# Altium schematic symbol library GeneralSchemaLibrary.SchLib: 214 symbols (part 2 of 2)
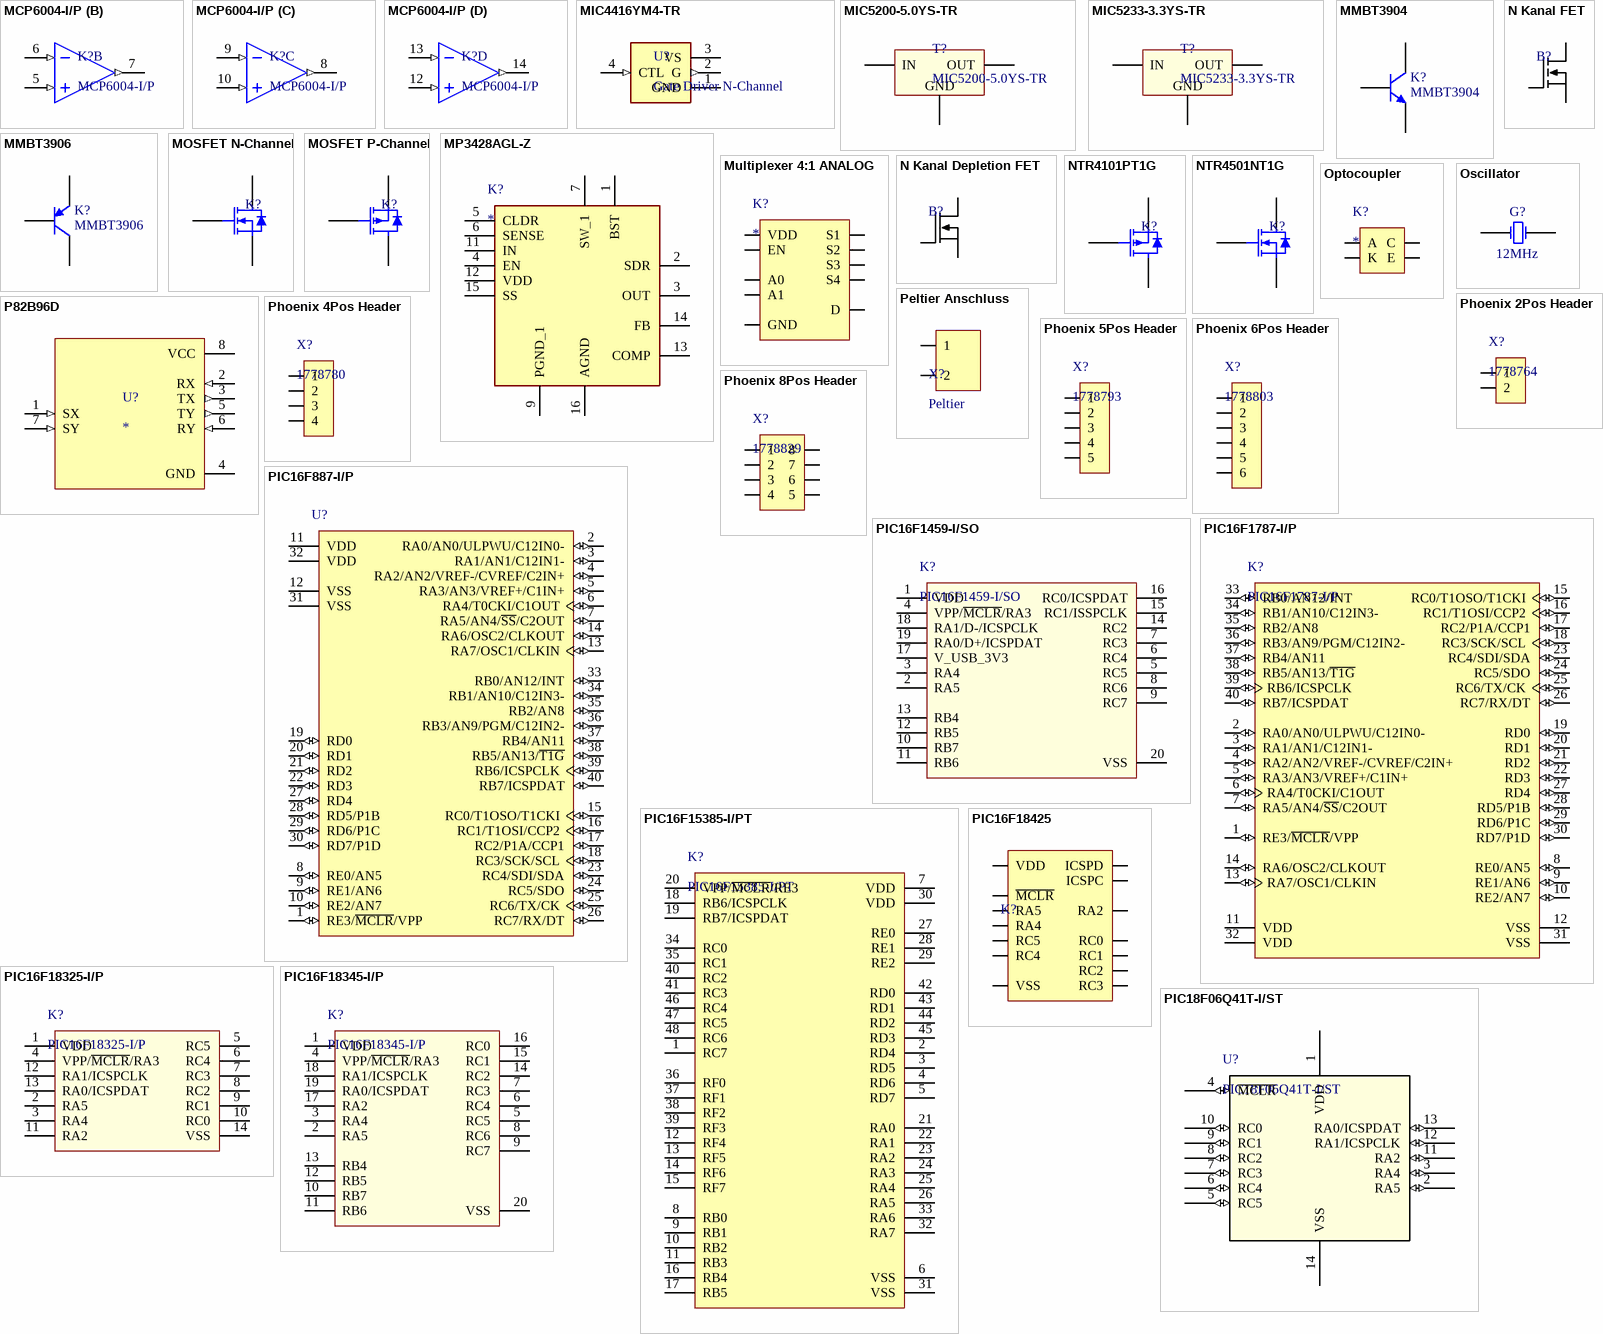
[diagram p7: symbols MCP6004-I/P to PIC18F06Q41T-I/ST]

## N Kanal FET
designator B?  (value not drawn)
footprint SOT23-3
footprint PowerPak SO-8
pins: 1 Gate, 2 Source, 3 Drain

## NTR4101PT1G
designator K?  (value not drawn)
MOSFET P-Channel in SOT23-3 package; Supplier 1: Mouser; Supplier Part Number 1: 863-NTR4101PT1G
footprint SOT23-3
pins: 1 G, 2 S, 3 D

## NTR4501NT1G
designator K?  (value not drawn)
MOSFET N-Channel in SOT23-3 package; Supplier 1: Mouser; Supplier Part Number 1: 863-NTR4501NT1G
footprint SOT23-3
pins: 1 G, 2 S, 3 D

## Optocoupler
designator K?
footprint SSOP-4 H
pins: 1 A, 2 K, 3 C, 4 E

## Oscillator
designator G?  value 12MHz
Crystal Oscillator; Published: 27.09.2019; LatestRevisionDate: 27.09.2019; Publisher: ICT Berufsbildungscenter AG
footprint Oscillator SMD
pins: 1 OSC1, 2 OSC2

## P82B96D
designator U?
Dual Bidirectional Bus Buffer 8-SOIC I2C; MP: P82B96D; MF: Texas Instruments; Check_prices: https://www.snapeda.com/parts/P82B96D/Texas%20Instruments/view-part/434000/?ref=eda; Availability: Warning; Package: SOIC-8 Texas Instruments; SnapEDA_Link: https://www.snapeda.com/parts/P82B96D/Texas%20Instruments/view-part/434000/?ref=snap; Price: None; Value: *; Purchase-URL: https://pricing.snapeda.com/search/part/P82B96D/?ref=eda
footprint TSSOP-8 H (TSSOP-8 for hand soldering)
pins: 1 SX (in), 2 RX (in), 3 TX (out), 4 GND (power), 5 TY (out), 6 RY (in), 7 SY (in), 8 VCC (power)

## Peltier Anschluss
designator X?, comment Peltier
footprint XT60_THT (XT60 to Board)
pins: 1, 2

## Phoenix 2Pos Header
designator X?, comment 1778764
footprint Phoenix 2Pos Header (MFR. 1778764)
pins: 1, 2

## Phoenix 4Pos Header
designator X?, comment 1778780
footprint Phoenix 4Pos Header (MFR. 1778780)
pins: 1, 2, 3, 4

## Phoenix 5Pos Header
designator X?, comment 1778793
footprint Phoenix 5Pos Header (MFR. 1778803)
pins: 1, 2, 3, 4, 5

## Phoenix 6Pos Header
designator X?, comment 1778803
footprint Phoenix 6Pos Header (MFR. 1778803)
pins: 1, 2, 3, 4, 5, 6

## Phoenix 8Pos Header
designator X?, comment 1778829
footprint Phoenix 8Pos Header (MFR. 1778829)
pins: 1, 2, 3, 4, 5, 6, 7, 8

## PIC16F887-I/P
designator U?
Flash-Based, 8-Bit CMOS Microcontroller with nanoWatt Technology, 8K (x14-Bit words) Program Memory, 624 Bytes Data Memory, 35 I/O pins, 40-Pin PDIP, Standard VDD Range, Industrial Temperature; Published: 29-Jan-2009; LatestRevisionDate: 02-Dec-2009; LatestRevisionNote: Updated datasheet to version revF, Apr-2009.; DatasheetVersion: revF, Apr-2009; PackageVersion: revBB, Aug-2009; PackageReference: PDIP600-P40; Publisher: Altium Limited; PackageDescription: 40-Lead Plastic Dual In-Line (P) - 600 mil Body [PDIP]; Supplier 1: Digi-Key; Supplier Part Number 1: PIC16F887-I/P-ND; Supplier 2: Farnell; Supplier Part Number 2: 1439541; ComponentLink1Description: Datasheet; ComponentLink1URL: http://ww1.microchip.com/downloads/en/DeviceDoc/41291F.pdf; ComponentLink2Description: Packaging Specification; ComponentLink2URL: http://www.microchip.com/stellent/groups/techpub_sg/documents/packagingspec/en012702.pdf; ComponentLink3Description: Microchip.com Home; ComponentLink3URL: http://www.microchip.com/
footprint DIP-40
pins: 1 RE3/~{MCLR}/VPP (io), 2 RA0/AN0/ULPWU/C12IN0- (io), 3 RA1/AN1/C12IN1- (io), 4 RA2/AN2/VREF-/CVREF/C2IN+ (io), 5 RA3/AN3/VREF+/C1IN+ (io), 6 RA4/T0CKI/C1OUT (io), 7 RA5/AN4/~{SS}/C2OUT (io), 8 RE0/AN5 (io), 9 RE1/AN6 (io), 10 RE2/AN7 (io), 11 VDD (power), 12 VSS (power), 13 RA7/OSC1/CLKIN (io), 14 RA6/OSC2/CLKOUT (io), 15 RC0/T1OSO/T1CKI (io), 16 RC1/T1OSI/CCP2 (io), 17 RC2/P1A/CCP1 (io), 18 RC3/SCK/SCL (io), 19 RD0 (io), 20 RD1 (io), 21 RD2 (io), 22 RD3 (io), 23 RC4/SDI/SDA (io), 24 RC5/SDO (io), 25 RC6/TX/CK (io), 26 RC7/RX/DT (io), 27 RD4 (io), 28 RD5/P1B (io), 29 RD6/P1C (io), 30 RD7/P1D (io), 31 VSS (power), 32 VDD (power), 33 RB0/AN12/INT (io), 34 RB1/AN10/C12IN3- (io), 35 RB2/AN8 (io), 36 RB3/AN9/PGM/C12IN2- (io), 37 RB4/AN11 (io), 38 RB5/AN13/~{T1G} (io), 39 RB6/ICSPCLK (io), 40 RB7/ICSPDAT (io)

## PIC16F1459-I/SO
designator K?
8 Bit Mikrocontroller, 20Pin, DIP, 14KB Flash, 1KB RAM, USB; Supplier 1: Mouser; Supplier Part Number 1: 579-PIC16F1459-I/SO
footprint SOIC-20 W H (Wide (300mil) SOIC with 20 pins for hand soldering)
footprint SOIC-18 W R (Wide (300mil) SOIC with 18 pins for reflow soldering)
pins: 1 VDD, 2 RA5, 3 RA4, 4 VPP/~{MCLR}/RA3, 5 RC5, 6 RC4, 7 RC3, 8 RC6, 9 RC7, 10 RB7, 11 RB6, 12 RB5, 13 RB4, 14 RC2, 15 RC1/ISSPCLK, 16 RC0/ICSPDAT, 17 V_USB_3V3, 18 RA1/D-/ICSPCLK, 19 RA0/D+/ICSPDAT, 20 VSS

## PIC16F1787-I/P
designator K?
Flash-Based, 8-Bit CMOS Microcontroller with nanoWatt Technology, 8K (x14-Bit words) Program Memory, 624 Bytes Data Memory, 35 I/O pins, 40-Pin PDIP, Standard VDD Range, Industrial Temperature; Published: 29-Jan-2009; LatestRevisionDate: 02-Dec-2009; LatestRevisionNote: Updated datasheet to version revF, Apr-2009.; DatasheetVersion: revF, Apr-2009; PackageVersion: revBB, Aug-2009; PackageReference: PDIP600-P40; Publisher: Altium Limited; PackageDescription: 40-Lead Plastic Dual In-Line (P) - 600 mil Body [PDIP]; Supplier 1: Digi-Key; Supplier Part Number 1: PIC16F887-I/P-ND; Supplier 2: Farnell; Supplier Part Number 2: 1439541; ComponentLink1Description: Datasheet; ComponentLink1URL: http://ww1.microchip.com/downloads/en/DeviceDoc/41291F.pdf; ComponentLink2Description: Packaging Specification; ComponentLink2URL: http://www.microchip.com/stellent/groups/techpub_sg/documents/packagingspec/en012702.pdf; ComponentLink3Description: Microchip.com Home; ComponentLink3URL: http://www.microchip.com/
footprint DIP-40
pins: 1 RE3/~{MCLR}/VPP (io), 2 RA0/AN0/ULPWU/C12IN0- (io), 3 RA1/AN1/C12IN1- (io), 4 RA2/AN2/VREF-/CVREF/C2IN+ (io), 5 RA3/AN3/VREF+/C1IN+ (io), 6 RA4/T0CKI/C1OUT (io), 7 RA5/AN4/~{SS}/C2OUT (io), 8 RE0/AN5 (io), 9 RE1/AN6 (io), 10 RE2/AN7 (io), 11 VDD (power), 12 VSS (power), 13 RA7/OSC1/CLKIN (io), 14 RA6/OSC2/CLKOUT (io), 15 RC0/T1OSO/T1CKI (io), 16 RC1/T1OSI/CCP2 (io), 17 RC2/P1A/CCP1 (io), 18 RC3/SCK/SCL (io), 19 RD0 (io), 20 RD1 (io), 21 RD2 (io), 22 RD3 (io), 23 RC4/SDI/SDA (io), 24 RC5/SDO (io), 25 RC6/TX/CK (io), 26 RC7/RX/DT (io), 27 RD4 (io), 28 RD5/P1B (io), 29 RD6/P1C (io), 30 RD7/P1D (io), 31 VSS (power), 32 VDD (power), 33 RB0/AN12/INT (io), 34 RB1/AN10/C12IN3- (io), 35 RB2/AN8 (io), 36 RB3/AN9/PGM/C12IN2- (io), 37 RB4/AN11 (io), 38 RB5/AN13/~{T1G} (io), 39 RB6/ICSPCLK (io), 40 RB7/ICSPDAT (io)

## PIC16F15385-I/PT
designator K?
8Bit Microcontroller, 48Pin, TQFP; Published: 29-Jan-2009; LatestRevisionDate: 02-Dec-2009; LatestRevisionNote: Updated datasheet to version revF, Apr-2009.; DatasheetVersion: revF, Apr-2009; PackageVersion: revBB, Aug-2009; PackageReference: PDIP600-P40; Publisher: Altium Limited; PackageDescription: 40-Lead Plastic Dual In-Line (P) - 600 mil Body [PDIP]; ComponentLink1Description: Datasheet; ComponentLink1URL: https://www.mouser.ch/datasheet/2/268/40001923A-1116203.pdf; Supplier 1: Mouser; Supplier Part Number 1: 579-PIC16F15385-I/PT
footprint TQFP 48
pins: 1 RC7, 2 RD4, 3 RD5, 4 RD6, 5 RD7, 6 VSS, 7 VDD, 8 RB0, 9 RB1, 10 RB2, 11 RB3, 12 RF4, 13 RF5, 14 RF6, 15 RF7, 16 RB4, 17 RB5, 18 RB6/ICSPCLK, 19 RB7/ICSPDAT, 20 VPP/~{MCLR}/RE3, 21 RA0, 22 RA1, 23 RA2, 24 RA3, 25 RA4, 26 RA5, 27 RE0, 28 RE1, 29 RE2, 30 VDD, 31 VSS, 32 RA7, 33 RA6, 34 RC0, 35 RC1, 36 RF0, 37 RF1, 38 RF2, 39 RF3, 40 RC2, 41 RC3, 42 RD0, 43 RD1, 44 RD2, 45 RD3, 46 RC4, 47 RC5, 48 RC6

## PIC16F18325-I/P
designator K?
8 Bit Mikrocontroller, 14Pin, DIP, 14KB Flash, 1KB RAM, 256B EEPROM; Supplier 1: Mouser; Supplier Part Number 1: 579-PIC16F18325-I/P
footprint DIP14-300 (DIP14 300mil width)
pins: 1 VDD, 2 RA5, 3 RA4, 4 VPP/~{MCLR}/RA3, 5 RC5, 6 RC4, 7 RC3, 8 RC2, 9 RC1, 10 RC0, 11 RA2, 12 RA1/ICSPCLK, 13 RA0/ICSPDAT, 14 VSS

## PIC16F18345-I/P
designator K?
8 Bit Mikrocontroller, 20Pin, DIP, 14KB Flash, 1KB RAM, 256B EEPROM; Supplier 1: Mouser; Supplier Part Number 1: 579-PIC16F18345-I/P
footprint DIP20-300 (DIP20 300mil width)
pins: 1 VDD, 2 RA5, 3 RA4, 4 VPP/~{MCLR}/RA3, 5 RC5, 6 RC4, 7 RC3, 8 RC6, 9 RC7, 10 RB7, 11 RB6, 12 RB5, 13 RB4, 14 RC2, 15 RC1, 16 RC0, 17 RA2, 18 RA1/ICSPCLK, 19 RA0/ICSPDAT, 20 VSS

## PIC16F18425
designator K?  (value not drawn)
14-Soic
footprint SOIC-14 N H (Narrow (150mil) SOIC with 14 pins for hand soldering)
pins: 1 VDD, 2 RA5, 3 RA4, 4 ~{MCLR}, 5 RC5, 6 RC4, 7 RC3, 8 RC2, 9 RC1, 10 RC0, 11 RA2, 12 ICSPC, 13 ICSPD, 14 VSS

## PIC18F06Q41T-I/ST
designator U?
64MHz Pic; SourceLibrary: Add_to_database_2020-11-19; Built_By: EMA_Cory; Vendor: Microchip; Copyright: Copyright (C) 2018 Accelerated Designs. All rights reserved; Manufacturer_Part_Number: PIC18F06Q41T-I/ST; Datasheet: http://ww1.microchip.com/downloads/en/DeviceDoc/PIC18F04-05-14-15Q41-Data-Sheet-40002242B.pdf; RefDes: RefDes; Type: DEV
footprint TSSOP14_ST_MCH-M
pins: 1 VDD (power), 2 RA5 (io), 3 RA4 (io), 4 ~{MCLR} (io), 5 RC5 (io), 6 RC4 (io), 7 RC3 (io), 8 RC2 (io), 9 RC1 (io), 10 RC0 (io), 11 RA2 (io), 12 RA1/ICSPCLK (io), 13 RA0/ICSPDAT (io), 14 VSS

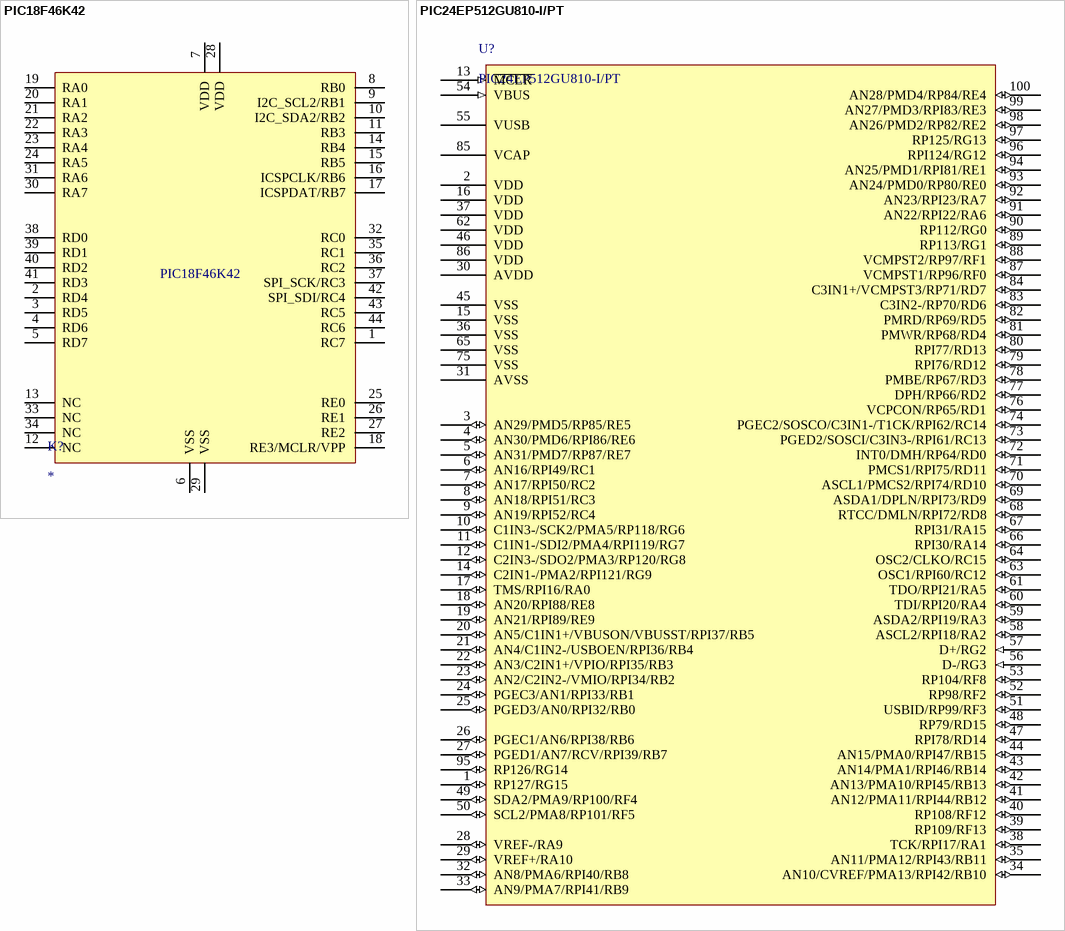
[diagram p4: symbols PIC18F46K42 to PIC24EP512GU810-I/PT]

## PIC18F46K42
designator K?
PIC18F46K42 64KB Flash 64MHz
footprint PIC18F46K42 (44-Pin TQFP)
pins: 1 RC7, 2 RD4, 3 RD5, 4 RD6, 5 RD7, 6 VSS, 7 VDD, 8 RB0, 9 I2C_SCL2/RB1, 10 I2C_SDA2/RB2, 11 RB3, 12 NC, 13 NC, 14 RB4, 15 RB5, 16 ICSPCLK/RB6, 17 ICSPDAT/RB7, 18 RE3/MCLR/VPP, 19 RA0, 20 RA1, 21 RA2, 22 RA3, 23 RA4, 24 RA5, 25 RE0, 26 RE1, 27 RE2, 28 VDD, 29 VSS, 30 RA7, 31 RA6, 32 RC0, 33 NC, 34 NC, 35 RC1, 36 RC2, 37 SPI_SCK/RC3, 38 RD0, 39 RD1, 40 RD2, 41 RD3, 42 SPI_SDI/RC4, 43 RC5, 44 RC6

## PIC24EP512GU810-I/PT
designator U?
General Purpose 16-bit Microcontroller with USB, Enhanced Performance Flash Memory, 512 KB Program Memory, 100-Pin TQFP (PT), Industrial Temperature; ComponentLink1Description: Datasheet; ComponentLink2Description: Packaging Specification; ComponentLink3Description: Microchip.com Home; ComponentLink3URL: http://www.microchip.com/; DatasheetVersion: Aug-2011; ComponentLink1URL: http://ww1.microchip.com/downloads/en/DeviceDoc/70616E.pdf; PackageVersion: revBB, Aug-2009; PackageDescription: 100-Lead Plastic Thin Quad Flatpack (PT) - 12x12x1mm Body, 2.00mm [TQFP]; ComponentLink2URL: http://www.microchip.com/stellent/groups/techpub_sg/documents/packagingspec/en012702.pdf; PackageReference: TQFP-PT100; PartNumber: PIC24EP512GU810-I/PT
footprint TQFP100_12x12MC_MCH-M
pins: 1 RP127/RG15 (io), 2 VDD (power), 3 AN29/PMD5/RP85/RE5 (io), 4 AN30/PMD6/RPI86/RE6 (io), 5 AN31/PMD7/RP87/RE7 (io), 6 AN16/RPI49/RC1 (io), 7 AN17/RPI50/RC2 (io), 8 AN18/RPI51/RC3 (io), 9 AN19/RPI52/RC4 (io), 10 C1IN3-/SCK2/PMA5/RP118/RG6 (io), 11 C1IN1-/SDI2/PMA4/RPI119/RG7 (io), 12 C2IN3-/SDO2/PMA3/RP120/RG8 (io), 13 ~{MCLR} (in), 14 C2IN1-/PMA2/RPI121/RG9 (io), 15 VSS (power), 16 VDD (power), 17 TMS/RPI16/RA0 (io), 18 AN20/RPI88/RE8 (io), 19 AN21/RPI89/RE9 (io), 20 AN5/C1IN1+/VBUSON/VBUSST/RPI37/RB5 (io), 21 AN4/C1IN2-/USBOEN/RPI36/RB4 (io), 22 AN3/C2IN1+/VPIO/RPI35/RB3 (io), 23 AN2/C2IN2-/VMIO/RPI34/RB2 (io), 24 PGEC3/AN1/RPI33/RB1 (io), 25 PGED3/AN0/RPI32/RB0 (io), 26 PGEC1/AN6/RPI38/RB6 (io), 27 PGED1/AN7/RCV/RPI39/RB7 (io), 28 VREF-/RA9 (io), 29 VREF+/RA10 (io), 30 AVDD (power), 31 AVSS (power), 32 AN8/PMA6/RPI40/RB8 (io), 33 AN9/PMA7/RPI41/RB9 (io), 34 AN10/CVREF/PMA13/RPI42/RB10 (io), 35 AN11/PMA12/RPI43/RB11 (io), 36 VSS (power), 37 VDD (power), 38 TCK/RPI17/RA1 (io), 39 RP109/RF13 (io), 40 RP108/RF12 (io), 41 AN12/PMA11/RPI44/RB12 (io), 42 AN13/PMA10/RPI45/RB13 (io), 43 AN14/PMA1/RPI46/RB14 (io), 44 AN15/PMA0/RPI47/RB15 (io), 45 VSS (power), 46 VDD (power), 47 RPI78/RD14 (io), 48 RP79/RD15 (io), 49 SDA2/PMA9/RP100/RF4 (io), 50 SCL2/PMA8/RP101/RF5 (io), 51 USBID/RP99/RF3 (io), 52 RP98/RF2 (io), 53 RP104/RF8 (io), 54 VBUS (in), 55 VUSB (power), 56 D-/RG3 (in), 57 D+/RG2 (in), 58 ASCL2/RPI18/RA2 (io), 59 ASDA2/RPI19/RA3 (io), 60 TDI/RPI20/RA4 (io), 61 TDO/RPI21/RA5 (io), 62 VDD (power), 63 OSC1/RPI60/RC12 (io), 64 OSC2/CLKO/RC15 (io), 65 VSS (power), 66 RPI30/RA14 (io), 67 RPI31/RA15 (io), 68 RTCC/DMLN/RPI72/RD8 (io), 69 ASDA1/DPLN/RPI73/RD9 (io), 70 ASCL1/PMCS2/RPI74/RD10 (io), 71 PMCS1/RPI75/RD11 (io), 72 INT0/DMH/RP64/RD0 (io), 73 PGED2/SOSCI/C3IN3-/RPI61/RC13 (io), 74 PGEC2/SOSCO/C3IN1-/T1CK/RPI62/RC14 (io), 75 VSS (power), 76 VCPCON/RP65/RD1 (io), 77 DPH/RP66/RD2 (io), 78 PMBE/RP67/RD3 (io), 79 RPI76/RD12 (io), 80 RPI77/RD13 (io), 81 PMWR/RP68/RD4 (io), 82 PMRD/RP69/RD5 (io), 83 C3IN2-/RP70/RD6 (io), 84 C3IN1+/VCMPST3/RP71/RD7 (io), 85 VCAP, 86 VDD (power), 87 VCMPST1/RP96/RF0 (io), 88 VCMPST2/RP97/RF1 (io), 89 RP113/RG1 (io), 90 RP112/RG0 (io), 91 AN22/RPI22/RA6 (io), 92 AN23/RPI23/RA7 (io), 93 AN24/PMD0/RP80/RE0 (io), 94 AN25/PMD1/RPI81/RE1 (io), 95 RP126/RG14 (io), 96 RPI124/RG12 (io), 97 RP125/RG13 (io), 98 AN26/PMD2/RP82/RE2 (io), 99 AN27/PMD3/RPI83/RE3 (io), 100 AN28/PMD4/RP84/RE4 (io)

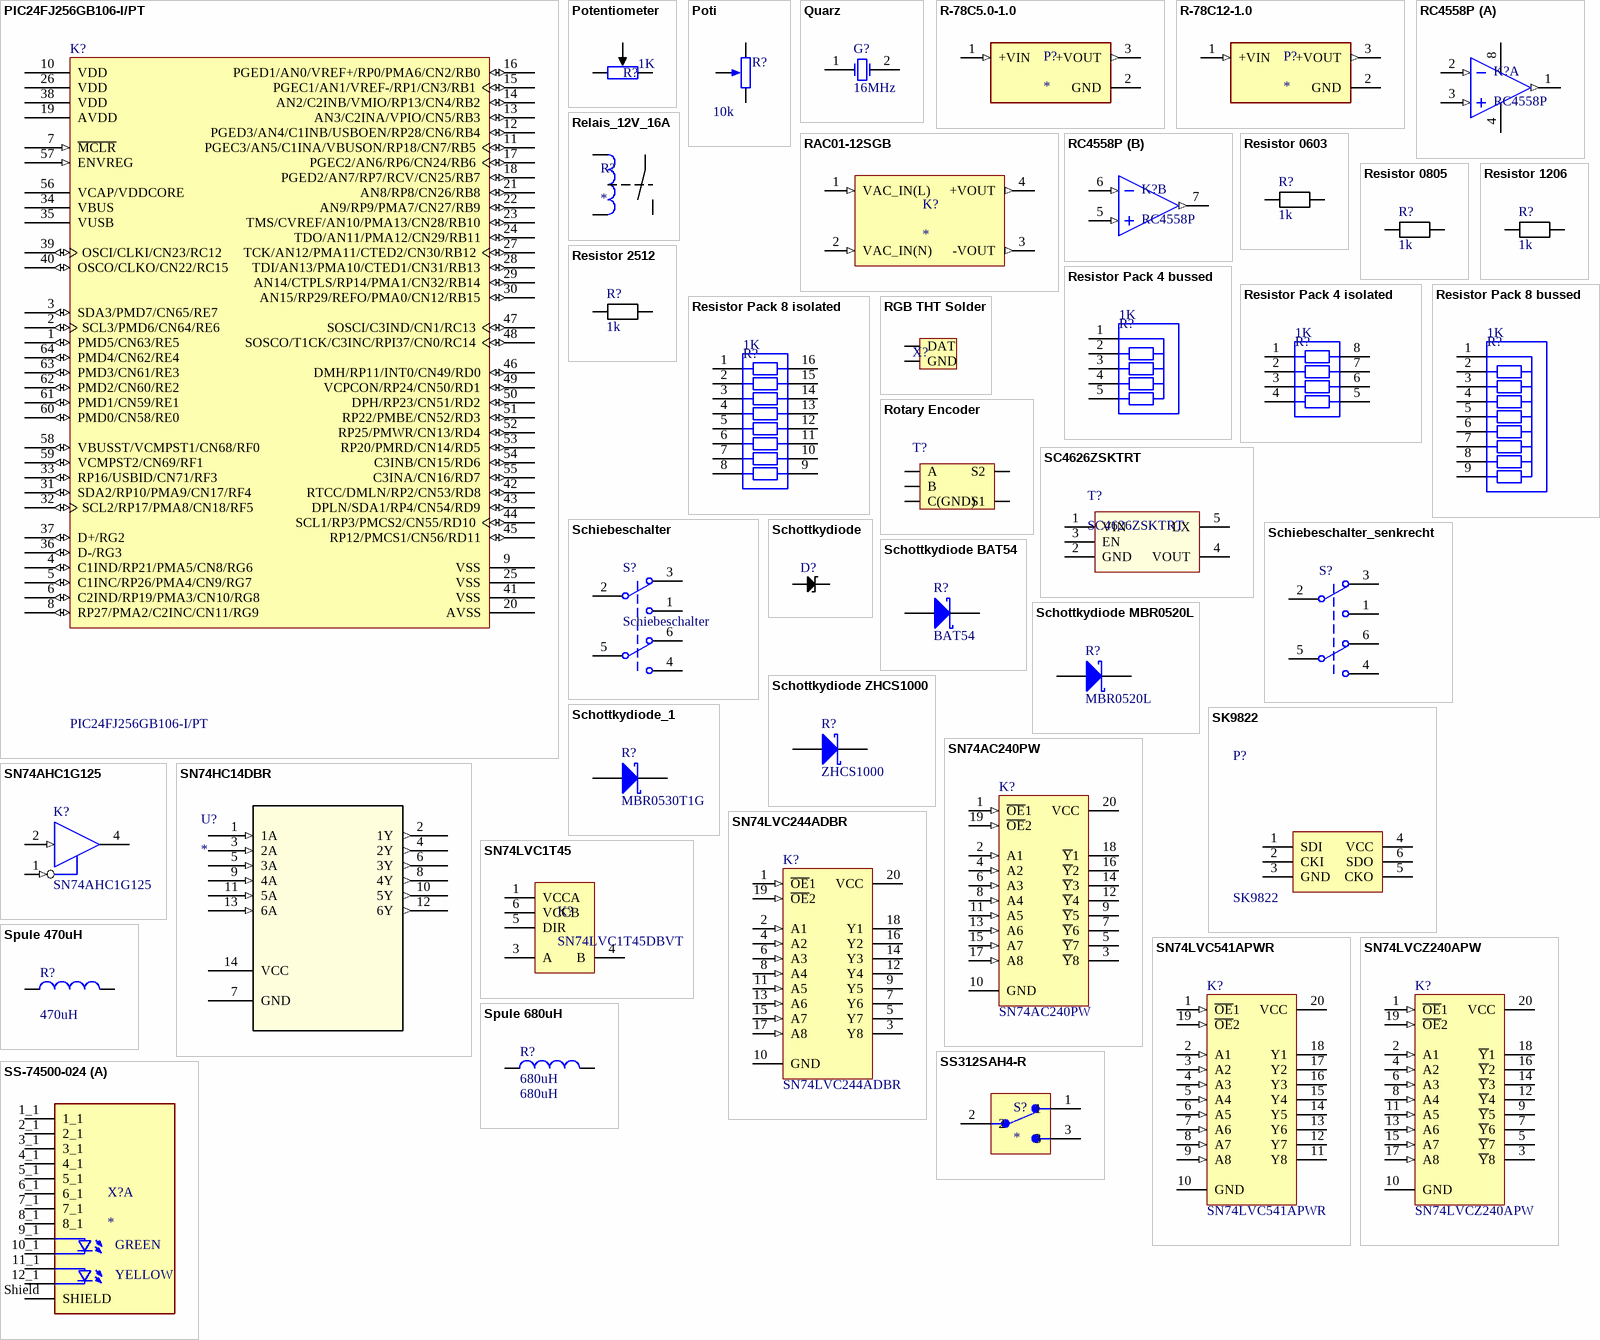
[diagram p5: symbols PIC24FJ256GB106-I/PT to SS-74500-024]

## PIC24FJ256GB106-I/PT
designator K?
General Purpose 16-Bit Flash Microcontroller with USB On-The-Go, 256KB Flash, 16KB SRAM, 64-Pin TQFP, Industrial Temperature; Published: 29-Jan-2009; LatestRevisionDate: 07-Oct-2010; LatestRevisionNote: Updated to datasheet revision C, Dec-2009. Supplier links updated. Sch. pin names updated.; DatasheetVersion: revC, Dec-2009; PackageVersion: revBB, Aug-2009; PackageReference: TQFP-PT64; Publisher: Altium Limited; PackageDescription: 64-Lead Thin Plastic Quad Flat Pack (PT) - 10x10x1mm Body, 2.00mm [TQFP]; Supplier 1: Digi-Key; Supplier Part Number 1: PIC24FJ256GB106-I/PT-ND; Supplier 2: Farnell; Supplier Part Number 2: 1576868; Code_JEDEC: MS-026; ComponentLink1Description: Datasheet; ComponentLink1URL: http://ww1.microchip.com/downloads/en/DeviceDoc/39897c.pdf; ComponentLink2Description: Packaging Specification; ComponentLink2URL: http://www.microchip.com/stellent/groups/techpub_sg/documents/packagingspec/en012702.pdf; ComponentLink3Description: Microchip.com Home; ComponentLink3URL: http://www.microchip.com/
footprint TQFP-64_M (64-Pin Thin Plastic Quad Flat Pack 0.5 mm Pitch, 1.0/0.1 mm Lead Form, IPC Low Density)
pins: 1 PMD5/CN63/RE5 (io), 2 SCL3/PMD6/CN64/RE6 (io), 3 SDA3/PMD7/CN65/RE7 (io), 4 C1IND/RP21/PMA5/CN8/RG6 (io), 5 C1INC/RP26/PMA4/CN9/RG7 (io), 6 C2IND/RP19/PMA3/CN10/RG8 (io), 7 ~{MCLR} (in), 8 RP27/PMA2/C2INC/CN11/RG9 (io), 9 VSS, 10 VDD, 11 PGEC3/AN5/C1INA/VBUSON/RP18/CN7/RB5 (io), 12 PGED3/AN4/C1INB/USBOEN/RP28/CN6/RB4 (io), 13 AN3/C2INA/VPIO/CN5/RB3 (io), 14 AN2/C2INB/VMIO/RP13/CN4/RB2 (io), 15 PGEC1/AN1/VREF-/RP1/CN3/RB1 (io), 16 PGED1/AN0/VREF+/RP0/PMA6/CN2/RB0 (io), 17 PGEC2/AN6/RP6/CN24/RB6 (io), 18 PGED2/AN7/RP7/RCV/CN25/RB7 (io), 19 AVDD, 20 AVSS, 21 AN8/RP8/CN26/RB8 (io), 22 AN9/RP9/PMA7/CN27/RB9 (io), 23 TMS/CVREF/AN10/PMA13/CN28/RB10 (io), 24 TDO/AN11/PMA12/CN29/RB11 (io), 25 VSS, 26 VDD, 27 TCK/AN12/PMA11/CTED2/CN30/RB12 (io), 28 TDI/AN13/PMA10/CTED1/CN31/RB13 (io), 29 AN14/CTPLS/RP14/PMA1/CN32/RB14 (io), 30 AN15/RP29/REFO/PMA0/CN12/RB15 (io), 31 SDA2/RP10/PMA9/CN17/RF4 (io), 32 SCL2/RP17/PMA8/CN18/RF5 (io), 33 RP16/USBID/CN71/RF3 (io), 34 VBUS (power), 35 VUSB (power), 36 D-/RG3 (io), 37 D+/RG2 (io), 38 VDD, 39 OSCI/CLKI/CN23/RC12 (io), 40 OSCO/CLKO/CN22/RC15 (io), 41 VSS, 42 RTCC/DMLN/RP2/CN53/RD8 (io), 43 DPLN/SDA1/RP4/CN54/RD9 (io), 44 SCL1/RP3/PMCS2/CN55/RD10 (io), 45 RP12/PMCS1/CN56/RD11 (io), 46 DMH/RP11/INT0/CN49/RD0 (io), 47 SOSCI/C3IND/CN1/RC13 (io), 48 SOSCO/T1CK/C3INC/RPI37/CN0/RC14 (io), 49 VCPCON/RP24/CN50/RD1 (io), 50 DPH/RP23/CN51/RD2 (io), 51 RP22/PMBE/CN52/RD3 (io), 52 RP25/PMWR/CN13/RD4 (io), 53 RP20/PMRD/CN14/RD5 (io), 54 C3INB/CN15/RD6 (io), 55 C3INA/CN16/RD7 (io), 56 VCAP/VDDCORE (power), 57 ENVREG (in), 58 VBUSST/VCMPST1/CN68/RF0 (io), 59 VCMPST2/CN69/RF1 (io), 60 PMD0/CN58/RE0 (io), 61 PMD1/CN59/RE1 (io), 62 PMD2/CN60/RE2 (io), 63 PMD3/CN61/RE3 (io), 64 PMD4/CN62/RE4 (io)

## Potentiometer
designator R?  value 1K  (hidden comment: Potentiometer)
LatestRevisionDate: 04.04.2019; Publisher: ICT Berufsbildungscenter AG
footprint Potentiometer THT
pins: 1, 2, 3

## Poti
designator R?  value 10k  (hidden comment: Poti)
footprint ADPoti
pins: 1 TOP, 2 BOT, 3 TAP

## Quarz
designator G?, comment 16MHz
Crystal Oscillator; Published: 8-Jun-2000; LatestRevisionDate: 17-Jul-2002; LatestRevisionNote: Re-released for DXP Platform.; PackageReference: R38; Publisher: Altium Limited; PackageDescription: Crystal, Thru-Hole; 2 Leads; Body 3.1 x 8.2 mm (Dia.xH)
simulation model XTAL (Spice Subcircuit)
footprint QUARZ
pins: 1 OSC1, 2 OSC2

## R-78C5.0-1.0
designator P?
1A DC/DC-Converter 'INNOLINE' SIP3 reg; MF: Recom Power; MP: R-78C5.0-1.0; SnapEDA_Link: https://www.snapeda.com/parts/R-78C5.0-1.0/Recom%20Power/view-part/331798/?ref=snap; Digi-Key_Part_Number: 945-1395-5-ND; Value: *; Package: SIP-3 Recom Power; Digi-Key_Purchase_URL: https://www.digikey.sg/product-detail/en/recom-power/R-78C5.0-1.0/945-1395-5-ND/2652148?utm_source=snapeda&utm_medium=aggregator&utm_campaign=symbol
footprint DC/DC 5V 5W (R-78C5.0-1.0)
pins: 1 +VIN (in), 2 GND (power), 3 +VOUT (out)

## R-78C12-1.0
designator P?
1A DC/DC-Converter 'INNOLINE' SIP3 reg; MP: R-78C12-1.0; MF: Recom Power; SnapEDA_Link: https://www.snapeda.com/parts/R-78C12-1.0/Recom%20Power/view-part/281065/?ref=snap; Digi-Key_Part_Number: 945-1392-5-ND; Digi-Key_Purchase_URL: https://www.digikey.com/product-detail/en/recom-power/R-78C12-1.0/945-1392-5-ND/2652145?utm_source=snapeda&utm_medium=aggregator&utm_campaign=symbol; Package: SIP-3 Recom Power; Value: *
footprint DC/DC 12V 12W (R-78C12-1.0)
pins: 1 +VIN (in), 2 GND (power), 3 +VOUT (out)

## RAC01-12SGB
designator K?
AC/DC Converter, 1 Watt, Single Output, EMC Class B; MP: RAC01-12SGB; Package: None; Price: None; Value: *; Availability: Unavailable
footprint CONV_RAC01-12SGB
pins: 1 VAC_IN(L) (in), 2 VAC_IN(N) (in), 3 -VOUT (out), 4 +VOUT (out)

## RC4558P
designator K?
Dual OPAMP / Dual Supply 5-15V; Supplier 1: Mouser; Supplier Part Number 1: 595-RC4558P
footprint DIP8-300 (DIP8 300mil width)
part A pins: 1 OUT1 (out), 2 IN1- (in), 3 IN1+ (in), 4 V- (power), 8 V+ (power)
part B pins: 5 IN2+ (in), 6 IN2- (in), 7 OUT2 (out)

## Relais_12V_16A
designator R?
255-3545-ND
footprint Relais 12V 16A
pins: 0, 1, 3, 4

## Resistor 0603
designator R?  value 1k
footprint RES 0603 H (0603 resistor for hand soldering)
pins: 1, 2

## Resistor 0805
designator R?  value 1k
footprint RES 0805 H (0805 resistor for hand soldering)
pins: 1, 2

## Resistor 1206
designator R?  value 1k
footprint RES 1206 H (1206 resistor for hand soldering)
pins: 1, 2

## Resistor 2512
designator R?  value 1k
footprint Res 2512 (1W - 2W)
pins: 1, 2

## Resistor Pack 4 bussed
designator R?, comment value 1K  (hidden comment: Resistor Pack)
Resistor pack with 4 resistors and a comman pin; LatestRevisionDate: 04.04.2019; Publisher: ICT Berufsbildungscenter AG
pins: 1, 2, 3, 4, 5

## Resistor Pack 4 isolated
designator R?, comment value 1K  (hidden comment: Resistor Pack)
Resistor pack with 4 individual resistors; LatestRevisionDate: 04.04.2019; Publisher: ICT Berufsbildungscenter AG
pins: 1, 2, 3, 4, 5, 6, 7, 8

## Resistor Pack 8 bussed
designator R?, comment value 1K  (hidden comment: Resistor Pack)
Resistor pack with 8 resistors and a comman pin; LatestRevisionDate: 04.04.2019; Publisher: ICT Berufsbildungscenter AG
pins: 1, 2, 3, 4, 5, 6, 7, 8, 9

## Resistor Pack 8 isolated
designator R?, comment value 1K  (hidden comment: Resistor Pack)
Resistor pack with 8 individual resistors; LatestRevisionDate: 04.04.2019; Publisher: ICT Berufsbildungscenter AG
pins: 1, 2, 3, 4, 5, 6, 7, 8, 9, 10, 11, 12, 13, 14, 15, 16

## RGB THT Solder
designator X?  (value not drawn)
WS2812B Data Connect (IN / OUT)
footprint 2Pin THT (Diverses)
pins: 1 GND, 2 DAT

## Rotary Encoder
designator T?  (value not drawn)
footprint Rotary_Enc (ACZ11BR1E-15KQD1-20C)
pins: 1 A, 2 B, 3 C(GND), 4 S1, 5 S2

## SC4626ZSKTRT
designator T?
Buck-converter 3.3V/1A SOT23-5; Supplier 1: Mouser; Supplier Part Number 1: 947-SC4626ZSKTRT
footprint SOT23-5
pins: 1 VIN, 2 GND, 3 EN, 4 VOUT, 5 LX

## Schiebeschalter
designator S?
Published: 24-Mar-1999; LatestRevisionDate: 17-Dec-2003; LatestRevisionNote: Schematic revised, PCB Footprint replaced.; DatasheetVersion: 05-Dec-2000; PackageReference: TL36WW15050; Publisher: Altium Limited; PackageDescription: Switch; 4 Leads; ComponentLink1Description: Manufacturer Link; ComponentLink1URL: http://www.apem.com
footprint Schiebeschalter
pins: 1, 2, 3, 4, 5, 6

## Schiebeschalter_senkrecht
designator S?  (value not drawn)
Published: 24-Mar-1999; LatestRevisionDate: 17-Dec-2003; LatestRevisionNote: Schematic revised, PCB Footprint replaced.; DatasheetVersion: 05-Dec-2000; PackageReference: TL36WW15050; Publisher: Altium Limited; PackageDescription: Switch; 4 Leads; ComponentLink1Description: Manufacturer Link; ComponentLink1URL: http://www.apem.com
footprint Schiebeschalter MMP 221
pins: 1, 2, 3, 4, 5, 6

## Schottkydiode
designator D?  (value not drawn)
footprint SOD-123
footprint DPAK Schottky
footprint 8-PowerVDFN
pins: 1, 2

## Schottkydiode BAT54
designator R?, comment BAT54
Schottkydiode BAT54; Published: 8-Jun-2000; LatestRevisionDate: 17-Jul-2002; LatestRevisionNote: Re-released for DXP Platform.; PackageReference: SMB; Publisher: Altium Limited; PackageDescription: DO-214-AA/SMB; 2 C-Bend Leads; Body 5.3 x 3.6 mm, inc. leads (LxW); Code_JEDEC: DO-214-AA
footprint SOT23-3
pins: 1 A, 3 K

## Schottkydiode MBR0520L
designator R?, comment MBR0520L
Schottkydiode MBR0520L; Published: 8-Jun-2000; LatestRevisionDate: 17-Jul-2002; LatestRevisionNote: Re-released for DXP Platform.; PackageReference: SMB; Publisher: Altium Limited; PackageDescription: DO-214-AA/SMB; 2 C-Bend Leads; Body 5.3 x 3.6 mm, inc. leads (LxW); Code_JEDEC: DO-214-AA
footprint SOD-123
pins: 1 A, 2 K

## Schottkydiode ZHCS1000
designator R?, comment ZHCS1000
Schottkydiode ZHCS1000; Published: 8-Jun-2000; LatestRevisionDate: 17-Jul-2002; LatestRevisionNote: Re-released for DXP Platform.; PackageReference: SMB; Publisher: Altium Limited; PackageDescription: DO-214-AA/SMB; 2 C-Bend Leads; Body 5.3 x 3.6 mm, inc. leads (LxW); Code_JEDEC: DO-214-AA
footprint SOT23-3
pins: 1 A, 3 K

## Schottkydiode_1
designator R?, comment MBR0530T1G
Schottkydiode; Published: 8-Jun-2000; LatestRevisionDate: 17-Jul-2002; LatestRevisionNote: Re-released for DXP Platform.; PackageReference: SMB; Publisher: Altium Limited; PackageDescription: DO-214-AA/SMB; 2 C-Bend Leads; Body 5.3 x 3.6 mm, inc. leads (LxW); Code_JEDEC: DO-214-AA
footprint SOD-123
pins: 1 A, 2 K

## SK9822
designator P?
SPI RGB LED; LatestRevisionDate: 02.05.2019; Publisher: ICT Berufsbildungscenter AG
footprint SK9822 (SPI RGB LED)
pins: 1 SDI (power), 2 CKI (power), 3 GND (power), 4 VCC (power), 5 CKO (power), 6 SDO (power)

## SN74AC240PW
designator K?
Octal Buffer/Driver with 3-State Outputs; ComponentAvailability: Obsolete; Published: 8-Jun-2000; LatestRevisionDate: 16-Oct-2006; LatestRevisionNote: IPC-7351 Footprint Added.; DatasheetVersion: Jun-1998; PackageVersion: Feb-1999; PackageReference: PW020; Publisher: Altium Limited; PackageDescription: 20-Pin Thin Small Outline Package 0.65 mm Pitch; ComponentLink1Description: Manufacturer Link; ComponentLink1URL: http://www.ti.com/; ComponentLink2Description: Datasheet; ComponentLink2URL: http://www-s.ti.com/sc/ds/sn74lvc240a.pdf
footprint TSSOP-20 (SSOP, Plastic; 20 Leads; Body Width 5.3 mm; Pitch 0.65 mm)
pins: 1 ~{OE}1 (in), 2 A1 (in), 3 ~{Y}8 (hiz), 4 A2 (in), 5 ~{Y}7 (hiz), 6 A3 (in), 7 ~{Y}6 (hiz), 8 A4 (in), 9 ~{Y}5 (hiz), 10 GND (power), 11 A5 (in), 12 ~{Y}4 (hiz), 13 A6 (in), 14 ~{Y}3 (hiz), 15 A7 (in), 16 ~{Y}2 (hiz), 17 A8 (in), 18 ~{Y}1 (hiz), 19 ~{OE}2 (in), 20 VCC (power)

## SN74AHC1G125
designator K?
Bus Buffer Gate with 3-State Output; Published: 10-Feb-2010; DatasheetVersion: Rev.3.00, Nov-2003; PackageVersion: Sep-2005; PackageReference: PUSN0005KA-A; Publisher: Altium Limited; PackageDescription: 5-Pin Dual Lead-Flat Package 0.5 mm Pitch (VSON-5); Code_JEITA: P-USON5-1.2x1.6-0.50; ComponentLink1Description: Manufacturer Link; ComponentLink1URL: http://sg.renesas.com/fmwk.jsp?cnt=unilogic_alvc_root.jsp&fp=/products/standard_ic/general_purpose_logic/uni_logic/unilogic_alvc/; ComponentLink2Description: Datasheet; ComponentLink2URL: http://documentation.renesas.com/eng/products/logic/rej03d0129_hd74alvc1g125.pdf; ComponentLink3Description: Packaging Specification; ComponentLink3URL: http://sg.renesas.com/media/products/common_info/package/pdf/ic/code/pusn0005ka_a.pdf
footprint DCK-5 (SOT-23/SC-74A; 5 Leads; Body 3.1 x 3 mm, inc. leads (LxW max))
pins: 1 ~{OE} (in), 2 A (in), 3 GND (power) hidden to GND, 4 Y (hiz), 5 VCC (power) hidden to 5V

## SN74HC14DBR
designator U?
Hex Schmitt-Trigger Inverters; Manufacturer: Texas Instruments; GENERIC_PART_NUMBER: SN74HC14; INDUSTRY_STD_PKG_TYPE: SSOP; FAMILY_NAME: INVERTING BUFFER/DRIVER; PIN_COUNT: 14; PACKAGE_DESIGNATOR: DB; Datasheet_URL: http://www.ti.com/lit/gpn/SN74HC14; Copyright: Copyright (C) 2018 Accelerated Designs. All rights reserved; RefDes: RefDes; Type: DEV
footprint DB14-M
pins: 1 1A (in), 2 1Y (out), 3 2A (in), 4 2Y (out), 5 3A (in), 6 3Y (out), 7 GND (power), 8 4Y (out), 9 4A (in), 10 5Y (out), 11 5A (in), 12 6Y (out), 13 6A (in), 14 VCC (power)

## SN74LVC1T45
designator K?, comment SN74LVC1T45DBVT
SN74LVC1T45
footprint SOT23-6 (SOT-23/SC-74A; 5 Leads; Body 3.1 x 3 mm, inc. leads (LxW max))
pins: 1 VCCA, 2 hidden to GND, 3 A, 4 B, 5 DIR, 6 VCCB

## SN74LVC244ADBR
designator K?
Octal Buffer and Line Driver with 3-State Outputs; Published: 8-Jun-2000; LatestRevisionDate: 13-Apr-2006; LatestRevisionNote: IPC-7351 Footprint Added.; DatasheetVersion: May-1997; PackageVersion: Mar-2000; PackageReference: DW020; Publisher: Altium Limited; PackageDescription: 20-Pin Plastic Small Outline Integrated Circuit 1.27 mm Pitch; Code_JEDEC: MS-013; Code_IPC: SOIC127P1030-20; ComponentLink1Description: Manufacturer Link; ComponentLink1URL: http://www.ti.com/; ComponentLink2Description: Datasheet; ComponentLink2URL: http://www-s.ti.com/sc/ds/sn74hc244.pdf
signal-integrity model SN74HC244DW
footprint TSSOP-20 (SSOP, Plastic; 20 Leads; Body Width 5.3 mm; Pitch 0.65 mm)
pins: 1 ~{OE}1 (in), 2 A1 (in), 3 Y8 (hiz), 4 A2 (in), 5 Y7 (hiz), 6 A3 (in), 7 Y6 (hiz), 8 A4 (in), 9 Y5 (hiz), 10 GND (power), 11 A5 (in), 12 Y4 (hiz), 13 A6 (in), 14 Y3 (hiz), 15 A7 (in), 16 Y2 (hiz), 17 A8 (in), 18 Y1 (hiz), 19 ~{OE}2 (in), 20 VCC (power)

## SN74LVC541APWR
designator K?
Octal Buffer/Driver with 3-State Outputs; ComponentAvailability: Obsolete; Published: 8-Jun-2000; LatestRevisionDate: 16-Oct-2006; LatestRevisionNote: IPC-7351 Footprint Added.; DatasheetVersion: Jun-1998; PackageVersion: Feb-1999; PackageReference: PW020; Publisher: Altium Limited; PackageDescription: 20-Pin Thin Small Outline Package 0.65 mm Pitch; ComponentLink1Description: Manufacturer Link; ComponentLink1URL: http://www.ti.com/; ComponentLink2Description: Datasheet; ComponentLink2URL: http://www-s.ti.com/sc/ds/sn74lvc541a.pdf
signal-integrity model SN74LVC541APWLE
footprint TSSOP-20 (SSOP, Plastic; 20 Leads; Body Width 5.3 mm; Pitch 0.65 mm)
pins: 1 ~{OE}1 (in), 2 A1 (in), 3 A2 (in), 4 A3 (in), 5 A4 (in), 6 A5 (in), 7 A6 (in), 8 A7 (in), 9 A8 (in), 10 GND (power), 11 Y8 (hiz), 12 Y7 (hiz), 13 Y6 (hiz), 14 Y5 (hiz), 15 Y4 (hiz), 16 Y3 (hiz), 17 Y2 (hiz), 18 Y1 (hiz), 19 ~{OE}2 (in), 20 VCC (power)

## SN74LVCZ240APW
designator K?
Octal Buffer/Driver with 3-State Outputs; ComponentAvailability: Obsolete; Published: 8-Jun-2000; LatestRevisionDate: 16-Oct-2006; LatestRevisionNote: IPC-7351 Footprint Added.; DatasheetVersion: Jun-1998; PackageVersion: Feb-1999; PackageReference: PW020; Publisher: Altium Limited; PackageDescription: 20-Pin Thin Small Outline Package 0.65 mm Pitch; ComponentLink1Description: Manufacturer Link; ComponentLink1URL: http://www.ti.com/; ComponentLink2Description: Datasheet; ComponentLink2URL: http://www-s.ti.com/sc/ds/sn74lvc240a.pdf
signal-integrity model SN74LVC240APWLE
footprint TSSOP-20 (SSOP, Plastic; 20 Leads; Body Width 5.3 mm; Pitch 0.65 mm)
pins: 1 ~{OE}1 (in), 2 A1 (in), 3 ~{Y}8 (hiz), 4 A2 (in), 5 ~{Y}7 (hiz), 6 A3 (in), 7 ~{Y}6 (hiz), 8 A4 (in), 9 ~{Y}5 (hiz), 10 GND (power), 11 A5 (in), 12 ~{Y}4 (hiz), 13 A6 (in), 14 ~{Y}3 (hiz), 15 A7 (in), 16 ~{Y}2 (hiz), 17 A8 (in), 18 ~{Y}1 (hiz), 19 ~{OE}2 (in), 20 VCC (power)

## Spule 470uH
designator R?, comment value 470uH  (hidden comment: MSS1260)
Spule 470uH; Code_IEC: 1005; Published: 8-Jun-2000; LatestRevisionDate: 29-May-2009; LatestRevisionNote: IPC-7351 Footprint Added.; PackageReference: 0402-A; Publisher: Altium Limited; PackageDescription: Chip Inductor; Code_JEITA: 0402
footprint MSS1260
pins: 1, 2

## Spule 680uH
designator R?, comment 680uH
Spule 680uH; Code_IEC: 1005; Published: 8-Jun-2000; LatestRevisionDate: 29-May-2009; LatestRevisionNote: IPC-7351 Footprint Added.; PackageReference: 0402-A; Publisher: Altium Limited; PackageDescription: Chip Inductor; Code_JEITA: 0402; Value: 680uH
footprint INDM4532X32M (Molded Inductor, 2-Leads, Body 4.50x3.20mm, IPC Low Density)
pins: 1, 2

## SS312SAH4-R
designator S?
MP: SS312SAH4-R; MF: NKK Switches; Availability: Unavailable; Value: *; Package: None; Price: None; SnapEDA_Link: https://www.snapeda.com/parts/SS312SAH4-R/NKK%20Switches/view-part/231456/?ref=snap
footprint Switch SPDT SMD
pins: 1, 2, 3

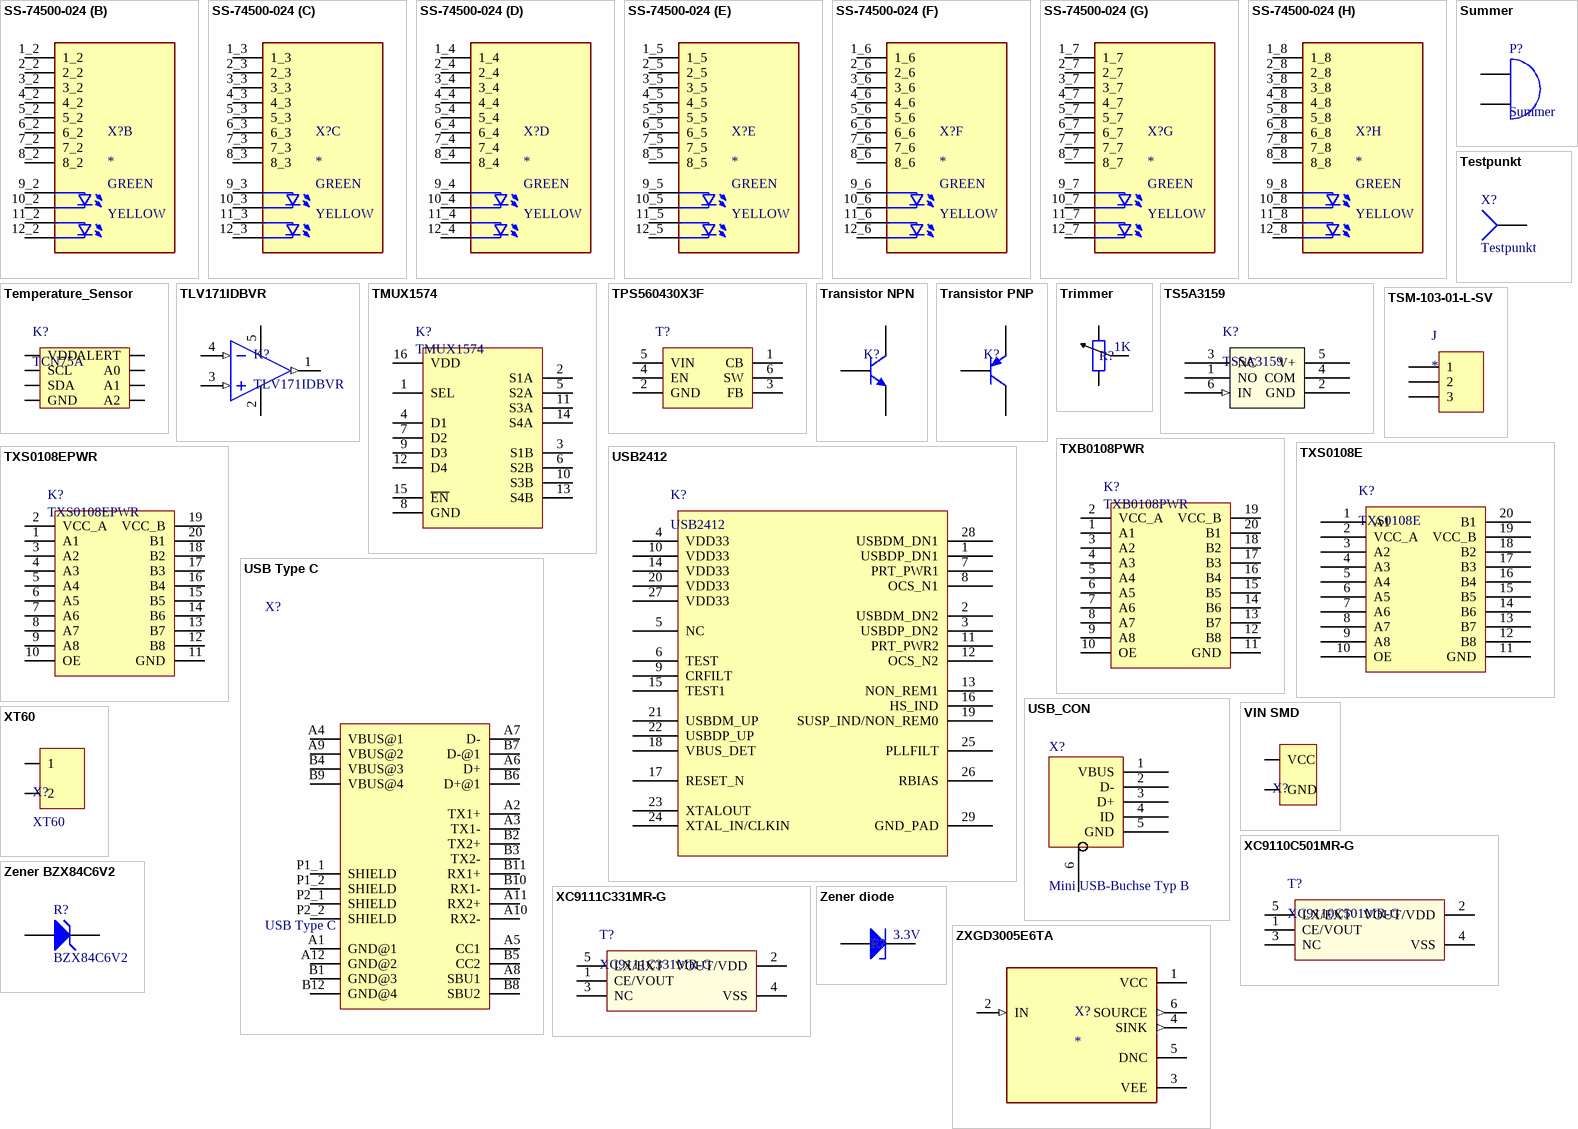
[diagram p6: symbols SS-74500-024 to ZXGD3005E6TA]

## SS-74500-024
designator X?
RJ 45 2x4 Stacked with LED's; MP: SS-74500-024; Package: None; Price: None; Value: *; Availability: Unavailable
footprint SS-74500-024 (8Pos RJ45)
part A pins: 1_1, 2_1, 3_1, 4_1, 5_1, 6_1, 7_1, 8_1, 9_1, 10_1, 11_1, 12_1, Shield SHIELD
part B pins: 1_2, 2_2, 3_2, 4_2, 5_2, 6_2, 7_2, 8_2, 9_2, 10_2, 11_2, 12_2
part C pins: 1_3, 2_3, 3_3, 4_3, 5_3, 6_3, 7_3, 8_3, 9_3, 10_3, 11_3, 12_3
part D pins: 1_4, 2_4, 3_4, 4_4, 5_4, 6_4, 7_4, 8_4, 9_4, 10_4, 11_4, 12_4
part E pins: 1_5, 2_5, 3_5, 4_5, 5_5, 6_5, 7_5, 8_5, 9_5, 10_5, 11_5, 12_5
part F pins: 1_6, 2_6, 3_6, 4_6, 5_6, 6_6, 7_6, 8_6, 9_6, 10_6, 11_6, 12_6
part G pins: 1_7, 2_7, 3_7, 4_7, 5_7, 6_7, 7_7, 8_7, 9_7, 10_7, 11_7, 12_7
part H pins: 1_8, 2_8, 3_8, 4_8, 5_8, 6_8, 7_8, 8_8, 9_8, 10_8, 11_8, 12_8
part A text: GREEN; YELLOW
part B text: GREEN; YELLOW
part C text: GREEN; YELLOW
part D text: GREEN; YELLOW
part E text: GREEN; YELLOW
part F text: GREEN; YELLOW
part G text: GREEN; YELLOW
part H text: GREEN; YELLOW

## Summer
designator P?
Published: 24-Mar-1999; LatestRevisionDate: 17-Jul-2002; LatestRevisionNote: Re-released for DXP Platform.; PackageReference: PIN2; Publisher: Altium Limited
footprint SUMMER
pins: 1 A, 2 B

## Temperature_Sensor
designator K?, comment TCN75A
footprint 8-MSOP (TSSOP-8 for hand soldering)
pins: 1 SDA, 2 SCL, 3 ALERT, 4 GND, 5 A2, 6 A1, 7 A0, 8 VDD

## Testpunkt
designator X?
LatestRevisionDate: 17-Jul-2002; LatestRevisionNote: Re-released for DXP Platform.; Publisher: Altium Limited
footprint Testpunkt (Generic Antenna; 1 Lead)
pins: 1

## TLV171IDBVR
designator K?
OPAMP / Dual Supply 1.5-18V; Supplier 1: Mouser; Supplier Part Number 1: 595-TLV171IDBVR
footprint SOT23-5
pins: 1 OUT1 (out), 2 V- (power), 3 IN1+ (in), 4 IN1- (in), 5 V+ (power)

## TMUX1574
designator K?
Analog switch; Supplier 1: Mouser; Supplier Part Number 1: 595-TMUX1574PWR
footprint TSSOP-16 H (TSSOP-16 for hand soldering)
pins: 1 SEL, 2 S1A, 3 S1B, 4 D1, 5 S2A, 6 S2B, 7 D2, 8 GND, 9 D3, 10 S3B, 11 S3A, 12 D4, 13 S4B, 14 S4A, 15 ~{EN}, 16 VDD

## TPS560430X3F
designator T?  (value not drawn)
Buck Converter Vout = 3.3V; Supplier 1: Mouser; Supplier Part Number 1: 595-TPS560430X3FDBVR
footprint SOT23-6
pins: 1 CB, 2 GND, 3 FB, 4 EN, 5 VIN, 6 SW

## Transistor NPN
designator K?  (value not drawn)
footprint SOT23-3
pins: 1 B, 2 E, 3 C

## Transistor PNP
designator K?  (value not drawn)
footprint SOT23-3
pins: 1 B, 2 E, 3 C

## Trimmer
designator R?, comment value 1K  (hidden comment: Trimming Potentiometer)
LatestRevisionDate: 04.04.2019; Publisher: ICT Berufsbildungscenter AG
pins: 1, 2, 3

## TS5A3159
designator K?
Analog switch SPST
footprint SOT23-6 (SOT-23/SC-74A; 5 Leads; Body 3.1 x 3 mm, inc. leads (LxW max))
pins: 1 NO, 2 GND (power), 3 NC, 4 COM, 5 V+ (power), 6 IN (in)

## TSM-103-01-L-SV
designator J
Connector Header Surface Mount 3 position 0.100 _2.54mm_; MF: Samtec; MP: TSM-103-01-L-SV; Digi-Key_Part_Number: SAM14791TR-ND; SnapEDA_Link: https://www.snapeda.com/parts/TSM-103-01-L-SV/Samtec%20Inc./view-part/589956/?ref=snap; Package: LQFP-48 Samtec; Digi-Key_Purchase_URL: https://www.digikey.com/product-detail/en/samtec-inc/TSM-103-01-L-SV-TR/SAM14791TR-ND/6691760?utm_source=snapeda&utm_medium=aggregator&utm_campaign=symbol; Value: *
footprint TSM-103-01-L-SV
pins: 1, 2, 3

## TXB0108PWR
designator K?
Level Shifter; Supplier 1: Mouser; Supplier Part Number 1: 595-TXB0108PWR
footprint TSSOP-20 H (TSSOP-20 for hand soldering)
pins: 1 A1, 2 VCC_A, 3 A2, 4 A3, 5 A4, 6 A5, 7 A6, 8 A7, 9 A8, 10 OE, 11 GND, 12 B8, 13 B7, 14 B6, 15 B5, 16 B4, 17 B3, 18 B2, 19 VCC_B, 20 B1

## TXS0108E
designator K?
8-bit bidirectional levelshifter
footprint TSSOP-20 (SSOP, Plastic; 20 Leads; Body Width 5.3 mm; Pitch 0.65 mm)
pins: 1 A1, 2 VCC_A, 3 A2, 4 A3, 5 A4, 6 A5, 7 A6, 8 A7, 9 A8, 10 OE, 11 GND, 12 B8, 13 B7, 14 B6, 15 B5, 16 B4, 17 B3, 18 B2, 19 VCC_B, 20 B1

## TXS0108EPWR
designator K?
Level Shifter with internal pullups; Supplier 1: Mouser; Supplier Part Number 1: 595-TXS0108EPWR
footprint TSSOP-20 H (TSSOP-20 for hand soldering)
pins: 1 A1, 2 VCC_A, 3 A2, 4 A3, 5 A4, 6 A5, 7 A6, 8 A7, 9 A8, 10 OE, 11 GND, 12 B8, 13 B7, 14 B6, 15 B5, 16 B4, 17 B3, 18 B2, 19 VCC_B, 20 B1

## USB2412
designator K?
footprint QFN-28 (QFN, 28-Leads, Body 5.1x5.1mm (max), Pitch 0.50mm, IPC Low Density)
pins: 1 USBDP_DN1, 2 USBDM_DN2, 3 USBDP_DN2, 4 VDD33, 5 NC, 6 TEST, 7 PRT_PWR1, 8 OCS_N1, 9 CRFILT, 10 VDD33, 11 PRT_PWR2, 12 OCS_N2, 13 NON_REM1, 14 VDD33, 15 TEST1, 16 HS_IND, 17 RESET_N, 18 VBUS_DET, 19 SUSP_IND/NON_REM0, 20 VDD33, 21 USBDM_UP, 22 USBDP_UP, 23 XTALOUT, 24 XTAL_IN/CLKIN, 25 PLLFILT, 26 RBIAS, 27 VDD33, 28 USBDM_DN1, 29 GND_PAD

## USB Type C
designator X?
USB Type C Connector; Publisher: ICT Berufsbildungscenter AG; LatestRevisionDate: 03.05.2019
footprint USB Type C Horizontal H (Manufacturer Part Number: Würth Elektronik 632723100011)
pins: A1 GND@1, A2 TX1+, A3 TX1-, A4 VBUS@1, A5 CC1, A6 D+, A7 D-, A8 SBU1, A9 VBUS@2, A10 RX2-, A11 RX2+, A12 GND@2, B1 GND@3, B2 TX2+, B3 TX2-, B4 VBUS@3, B5 CC2, B6 D+@1, B7 D-@1, B8 SBU2, B9 VBUS@4, B10 RX1-, B11 RX1+, B12 GND@4, P1_1 SHIELD, P1_2 SHIELD, P2_1 SHIELD, P2_2 SHIELD

## USB_CON
designator X?, comment Mini USB-Buchse Typ B
footprint Mini USB
pins: 1 VBUS, 2 D-, 3 D+, 4 ID, 5 GND, 6 Body-GND

## VIN SMD
designator X?  (value not drawn)
footprint 2 SMD Pad (4x8mm)
pins: 1 VCC, 2 GND

## XC9110C501MR-G
designator T?
Boost-converter 5V/1A SOT23-5; Supplier 1: Mouser; Supplier Part Number 1: 865-XC9110C501MR-G
footprint SOT23-5
pins: 1 CE/VOUT, 2 VOUT/VDD, 3 NC, 4 VSS, 5 LX/EXT

## XC9111C331MR-G
designator T?
Boost-converter 3.3V/1A SOT23-5; Supplier 1: Mouser; Supplier Part Number 1: 865-XC9111C331MR-G
footprint SOT23-5
pins: 1 CE/VOUT, 2 VOUT/VDD, 3 NC, 4 VSS, 5 LX/EXT

## XT60
designator X?
footprint XT60-Angled
footprint XT60_THT Female (XT60 to Board)
footprint XT60_THT Male (XT60 to Board)
pins: 1, 2

## Zener BZX84C6V2
designator R?, comment BZX84C6V2
Zenerdiode BZX84C6V2; Published: 8-Jun-2000; LatestRevisionDate: 17-Jul-2002; LatestRevisionNote: Re-released for DXP Platform.; PackageReference: DIODE-0.7; Publisher: Altium Limited; PackageDescription: Diode, Thru-Hole; 2 Leads; 0.7 in Pin Spacing
simulation model ZENER (Diode)
signal-integrity model D Zener
footprint SOT23-3
pins: 1 A, 3 K

## Zener diode
designator R?  value 3.3V  (hidden comment: Zener diode)
LatestRevisionDate: 24.01.2020; Publisher: ICT Berufsbildungscenter AG
footprint Diode 5mm (Diode for tht mounting with a 5mm pitch)
footprint Diode 7.5mm (Diode for tht mounting with a 7.5mm pitch)
footprint Diode 10mm (Diode for tht mounting with a 10mm pitch)
footprint Diode 12.5mm (Diode for tht mounting with a 12.5mm pitch)
footprint Diode SOD123 H (Diode in SOD123 Case for hand soldering)
footprint Diode SOD123 R (Diode in SOD123 Case for reflow soldering)
footprint Diode DO-214AA SMB H (Diode in DO-214AA (same as SMB) package for hand soldering)
footprint Diode DO-214AA SMB R (Diode in DO-214AA (same as SMB) package for reflow soldering)
footprint Diode DO-214AB SMC H (Diode in DO-214AB (same as SMC) package for hand soldering)
footprint Diode DO-214AB SMC R (Diode in DO-214AB (same as SMC) package for reflow soldering)
footprint Diode DO-214AC SMA H (Diode in DO-214AC (same as SMA) package for hand soldering)
footprint Diode DO-214AC SMA R (Diode in DO-214AC (same as SMA) package for reflow soldering)
pins: A Anode, C Cathode

## ZXGD3005E6TA
designator X?
Low-Side Gate Driver IC Non-Inverting SOT-26; MP: ZXGD3005E6TA; Package: None; Price: None; Value: *; Availability: Unavailable
footprint SOT26
pins: 1 VCC (power), 2 IN (in), 3 VEE (power), 4 SINK (out), 5 DNC, 6 SOURCE (out)